# EAGLE library part TX25-80P-6ST-H1E (library JAE_By_element14_Batch_1)
CONN PLUG 1.27MM 80POS GOLD STR
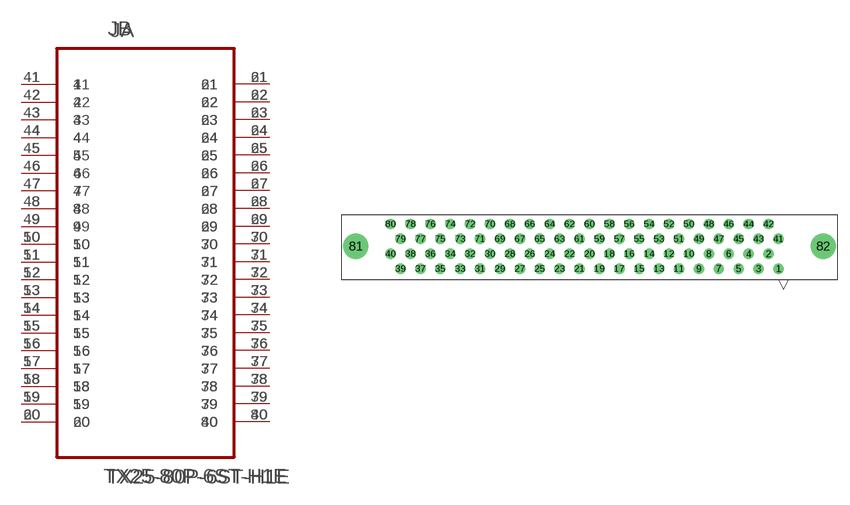
[diagram p17: symbol with the pads of JAE_TX25-80P-6ST-H1E; footprint JAE_TX25-80P-6ST-H1E]

Designator prefix J; gates A=TX25-80P-6ST-H1E_A B=TX25-80P-6ST-H1E_B

## TX25-80P-6ST-H1E (MPN: TX25-80P-6ST-H1E; OC_FARNELL: 1519630; OC_NEWARK: 74M4895; PACKAGE: CONN-80POS; SUPPLIER: JAE)  [JAE_TX25-80P-6ST-H1E]
1  A:1  pas
2  A:2  pas
3  A:3  pas
4  A:4  pas
5  A:5  pas
6  A:6  pas
7  A:7  pas
8  A:8  pas
9  A:9  pas
10  A:10  pas
11  A:11  pas
12  A:12  pas
13  A:13  pas
14  A:14  pas
15  A:15  pas
16  A:16  pas
17  A:17  pas
18  A:18  pas
19  A:19  pas
20  A:20  pas
21  A:21  pas
22  A:22  pas
23  A:23  pas
24  A:24  pas
25  A:25  pas
26  A:26  pas
27  A:27  pas
28  A:28  pas
29  A:29  pas
30  A:30  pas
31  A:31  pas
32  A:32  pas
33  A:33  pas
34  A:34  pas
35  A:35  pas
36  A:36  pas
37  A:37  pas
38  A:38  pas
39  A:39  pas
40  A:40  pas
41  B:41  pas
42  B:42  pas
43  B:43  pas
44  B:44  pas
45  B:45  pas
46  B:46  pas
47  B:47  pas
48  B:48  pas
49  B:49  pas
50  B:50  pas
51  B:51  pas
52  B:52  pas
53  B:53  pas
54  B:54  pas
55  B:55  pas
56  B:56  pas
57  B:57  pas
58  B:58  pas
59  B:59  pas
60  B:60  pas
61  B:61  pas
62  B:62  pas
63  B:63  pas
64  B:64  pas
65  B:65  pas
66  B:66  pas
67  B:67  pas
68  B:68  pas
69  B:69  pas
70  B:70  pas
71  B:71  pas
72  B:72  pas
73  B:73  pas
74  B:74  pas
75  B:75  pas
76  B:76  pas
77  B:77  pas
78  B:78  pas
79  B:79  pas
80  B:80  pas

## Footprint JAE_TX25-80P-6ST-H1E (pad centres in mm)
drill 0.813: 1 24.13,-6.858; 2 22.86,-4.953; 3 21.59,-6.858; 4 20.32,-4.953; 5 19.05,-6.858; 6 17.78,-4.953; 7 16.51,-6.858; 8 15.24,-4.953; 9 13.97,-6.858; 10 12.7,-4.953; 11 11.43,-6.858; 12 10.16,-4.953; 13 8.89,-6.858; 14 7.62,-4.953; 15 6.35,-6.858; 16 5.08,-4.953; 17 3.81,-6.858; 18 2.54,-4.953; 19 1.27,-6.858; 20 0,-4.953; 21 -1.27,-6.858; 22 -2.54,-4.953; 23 -3.81,-6.858; 24 -5.08,-4.953; 25 -6.35,-6.858; 26 -7.62,-4.953; 27 -8.89,-6.858; 28 -10.16,-4.953; 29 -11.43,-6.858; 30 -12.7,-4.953; 31 -13.97,-6.858; 32 -15.24,-4.953; 33 -16.51,-6.858; 34 -17.78,-4.953; 35 -19.05,-6.858; 36 -20.32,-4.953; 37 -21.59,-6.858; 38 -22.86,-4.953; 39 -24.13,-6.858; 40 -25.4,-4.953; 41 24.13,-3.048; 42 22.86,-1.143; 43 21.59,-3.048; 44 20.32,-1.143; 45 19.05,-3.048; 46 17.78,-1.143; 47 16.51,-3.048; 48 15.24,-1.143; 49 13.97,-3.048; 50 12.7,-1.143; 51 11.43,-3.048; 52 10.16,-1.143; 53 8.89,-3.048; 54 7.62,-1.143; 55 6.35,-3.048; 56 5.08,-1.143; 57 3.81,-3.048; 58 2.54,-1.143; 59 1.27,-3.048; 60 0,-1.143; 61 -1.27,-3.048; 62 -2.54,-1.143; 63 -3.81,-3.048; 64 -5.08,-1.143; 65 -6.35,-3.048; 66 -7.62,-1.143; 67 -8.89,-3.048; 68 -10.16,-1.143; 69 -11.43,-3.048; 70 -12.7,-1.143; 71 -13.97,-3.048; 72 -15.24,-1.143; 73 -16.51,-3.048; 74 -17.78,-1.143; 75 -19.05,-3.048; 76 -20.32,-1.143; 77 -21.59,-3.048; 78 -22.86,-1.143; 79 -24.13,-3.048; 80 -25.4,-1.143
drill 2.21: 81 -29.845,-3.988; 82 29.845,-3.988